# EAGLE library part J-24- (library con-headers-jp)
HEADER JACK PINS
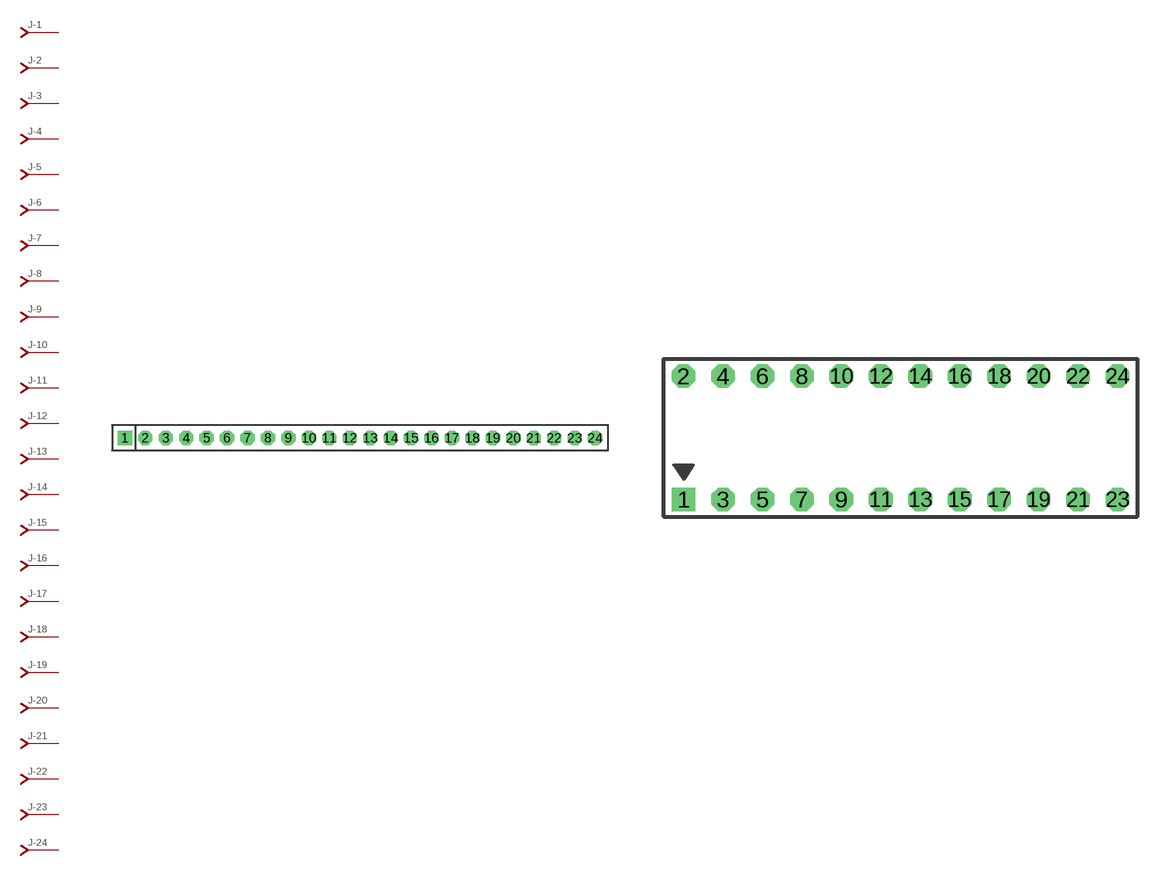
[diagram p9: symbol with the pads of SIP-100-24; footprints SIP-100-24, 535512-24]

Designator prefix J; gates -1=J-N -2=J-N -3=J-N -4=J-N -5=J-N -6=J-N -7=J-N -8=J-N -9=J-N -10=J-N -11=J-N -12=J-N -13=J-N -14=J-N -15=J-N -16=J-N -17=J-N -18=J-N -19=J-N -20=J-N -21=J-N -22=J-N -23=J-N -24=J-N

## J-24-SIP-100  [SIP-100-24]
1  -1:J  pas
2  -2:J  pas
3  -3:J  pas
4  -4:J  pas
5  -5:J  pas
6  -6:J  pas
7  -7:J  pas
8  -8:J  pas
9  -9:J  pas
10  -10:J  pas
11  -11:J  pas
12  -12:J  pas
13  -13:J  pas
14  -14:J  pas
15  -15:J  pas
16  -16:J  pas
17  -17:J  pas
18  -18:J  pas
19  -19:J  pas
20  -20:J  pas
21  -21:J  pas
22  -22:J  pas
23  -23:J  pas
24  -24:J  pas

## J-24-535512  [535512-24]
Pads as for SIP-100-24

## J-24-79107  [79107-24]
Pads as for SIP-100-24

## J-24-79109  [79109-24]
Pads as for SIP-100-24

## J-24-87264  [87264-24]
Pads as for SIP-100-24

## J-24-87368  [87368-24]
Pads as for SIP-100-24

## J-24-100-2X12  [HDR-100-2X12]
Pads as for SIP-100-24

## J-24-100-2X12_M  [HDR-100-2X12_M]
Pads as for SIP-100-24

## J-24-2MM-2X12  [HDR-2MM-2X12]
Pads as for SIP-100-24

## J-24-2MM-2X12_M  [HDR-2MM-2X12_M]
Pads as for SIP-100-24

## Footprint SIP-100-24 (pad centres in mm)
SIP Header - 0.1"
drill 0.914 pad 1.778 square: 1 -29.21,0
drill 0.914 pad 1.778 octagon: 2 -26.67,0; 3 -24.13,0; 4 -21.59,0; 5 -19.05,0; 6 -16.51,0; 7 -13.97,0; 8 -11.43,0; 9 -8.89,0; 10 -6.35,0; 11 -3.81,0; 12 -1.27,0; 13 1.27,0; 14 3.81,0; 15 6.35,0; 16 8.89,0; 17 11.43,0; 18 13.97,0; 19 16.51,0; 20 19.05,0; 21 21.59,0; 22 24.13,0; 23 26.67,0; 24 29.21,0

## Footprint 535512-24 (pad centres in mm)
AMPMODU - 535512 Series
drill 1.016 square: 1 -13.97,0
drill 1.016 octagon: 2 -13.97,7.938; 3 -11.43,0; 4 -11.43,7.938; 5 -8.89,0; 6 -8.89,7.938; 7 -6.35,0; 8 -6.35,7.938; 9 -3.81,0; 10 -3.81,7.938; 11 -1.27,0; 12 -1.27,7.938; 13 1.27,0; 14 1.27,7.938; 15 3.81,0; 16 3.81,7.938; 17 6.35,0; 18 6.35,7.938; 19 8.89,0; 20 8.89,7.938; 21 11.43,0; 22 11.43,7.938; 23 13.97,0; 24 13.97,7.938

## Footprint 79107-24 (pad centres in mm)
Molex Board-To-Board Receptacal 2.00mm (.079") Pitch Milli-Grid Header, Vertical, Through-Hole Mates with: 87759, 87762, 87758, 87760
drill 0.914 square: 1 -11,-1
drill 0.914 round: 2 -11,1; 3 -9,-1; 4 -9,1; 5 -7,-1; 6 -7,1; 7 -5,-1; 8 -5,1; 9 -3,-1; 10 -3,1; 11 -1,-1; 12 -1,1; 13 1,-1; 14 1,1; 15 3,-1; 16 3,1; 17 5,-1; 18 5,1; 19 7,-1; 20 7,1; 21 9,-1; 22 9,1; 23 11,-1; 24 11,1

## Footprint 79109-24 (pad centres in mm)
Molex Board-to-Board Receptacal 2.00mm (.079") Pitch Milli-Grid Header, Vertical, Top/Bottom Entry Mates with: 87758, 87759, 87760, 87831, 87832, 87833
smd 1.12 x 1.83: 1 -11,-2.65; 2 -11,2.65; 3 -9,-2.65; 4 -9,2.65; 5 -7,-2.65; 6 -7,2.65; 7 -5,-2.65; 8 -5,2.65; 9 -3,-2.65; 10 -3,2.65; 11 -1,-2.65; 12 -1,2.65; 13 1,-2.65; 14 1,2.65; 15 3,-2.65; 16 3,2.65; 17 5,-2.65; 18 5,2.65; 19 7,-2.65; 20 7,2.65; 21 9,-2.65; 22 9,2.65; 23 11,-2.65; 24 11,2.65
hole 0.914 at -10,0
hole 0.914 at -11,1
hole 0.914 at -11,-1
hole 0.914 at -9,-1
hole 0.914 at -9,1
hole 0.914 at -7,-1
hole 0.914 at -7,1
hole 0.914 at 10,0
hole 0.914 at -5,1
hole 0.914 at -5,-1
hole 0.914 at -3,1
hole 0.914 at -3,-1
hole 0.914 at -1,1
hole 0.914 at -1,-1
hole 0.914 at 1,1
hole 0.914 at 1,-1
hole 0.914 at 3,-1
hole 0.914 at 3,1
hole 0.914 at 5,1
hole 0.914 at 5,-1
hole 0.914 at 7,1
hole 0.914 at 7,-1
hole 0.914 at 9,1
hole 0.914 at 9,-1
hole 0.914 at 11,-1
hole 0.914 at 11,1

## Footprint 87264-24 (pad centres in mm)
Molex Board-To-Board Receptacal 2.00mm (.079") Pitch Milli-Grid Header, Side Entry Mates with 2mm(.079") Mill-Grid Header
drill 0.914 square: 1 -11,-2.25
drill 0.914 round: 2 -11,2.25; 3 -9,-2.25; 4 -9,2.25; 5 -7,-2.25; 6 -7,2.25; 7 -5,-2.25; 8 -5,2.25; 9 -3,-2.25; 10 -3,2.25; 11 -1,-2.25; 12 -1,2.25; 13 1,-2.25; 14 1,2.25; 15 3,-2.25; 16 3,2.25; 17 5,-2.25; 18 5,2.25; 19 7,-2.25; 20 7,2.25; 21 9,-2.25; 22 9,2.25; 23 11,-2.25; 24 11,2.25

## Footprint 87368-24 (pad centres in mm)
Molex Board-To-Board Receptacal 2.00mm (.079") Pitch Milli-Grid Header, Side Entry SMD Mates with 2mm(.079") Mill-Grid Header
smd 1 x 2.8: 1 -11,-3.1; 2 -11,3.1; 3 -9,-3.1; 4 -9,3.1; 5 -7,-3.1; 6 -7,3.1; 7 -5,-3.1; 8 -5,3.1; 9 -3,-3.1; 10 -3,3.1; 11 -1,-3.1; 12 -1,3.1; 13 1,-3.1; 14 1,3.1; 15 3,-3.1; 16 3,3.1; 17 5,-3.1; 18 5,3.1; 19 7,-3.1; 20 7,3.1; 21 9,-3.1; 22 9,3.1; 23 11,-3.1; 24 11,3.1
hole 0.914 at -11,0
hole 0.914 at 0,0

## Footprint HDR-100-2X12 (pad centres in mm)
PIN HEADER - 0.1"
drill 1.016 square: 1 -13.97,-1.27
drill 1.016 octagon: 2 -13.97,1.27; 3 -11.43,-1.27; 4 -11.43,1.27; 5 -8.89,-1.27; 6 -8.89,1.27; 7 -6.35,-1.27; 8 -6.35,1.27; 9 -3.81,-1.27; 10 -3.81,1.27; 11 -1.27,-1.27; 12 -1.27,1.27; 13 1.27,-1.27; 14 1.27,1.27; 15 3.81,-1.27; 16 3.81,1.27; 17 6.35,-1.27; 18 6.35,1.27; 19 8.89,-1.27; 20 8.89,1.27; 21 11.43,-1.27; 22 11.43,1.27; 23 13.97,-1.27; 24 13.97,1.27

## Footprint HDR-100-2X12_M (pad centres in mm)
PIN HEADER - 0.1" - MIRRORED
drill 1.016 square: 1 -13.97,1.27
drill 1.016 octagon: 2 -13.97,-1.27; 3 -11.43,1.27; 4 -11.43,-1.27; 5 -8.89,1.27; 6 -8.89,-1.27; 7 -6.35,1.27; 8 -6.35,-1.27; 9 -3.81,1.27; 10 -3.81,-1.27; 11 -1.27,1.27; 12 -1.27,-1.27; 13 1.27,1.27; 14 1.27,-1.27; 15 3.81,1.27; 16 3.81,-1.27; 17 6.35,1.27; 18 6.35,-1.27; 19 8.89,1.27; 20 8.89,-1.27; 21 11.43,1.27; 22 11.43,-1.27; 23 13.97,1.27; 24 13.97,-1.27

## Footprint HDR-2MM-2X12 (pad centres in mm)
PIN HEADER - 2MM"
drill 0.914 square: 1 -11,-1
drill 0.914 round: 2 -11,1; 3 -9,-1; 4 -9,1; 5 -7,-1; 6 -7,1; 7 -5,-1; 8 -5,1; 9 -3,-1; 10 -3,1; 11 -1,-1; 12 -1,1; 13 1,-1; 14 1,1; 15 3,-1; 16 3,1; 17 5,-1; 18 5,1; 19 7,-1; 20 7,1; 21 9,-1; 22 9,1; 23 11,-1; 24 11,1

## Footprint HDR-2MM-2X12_M (pad centres in mm)
PIN HEADER - 2MM - MIRRORED
drill 0.914 square: 1 -11,1
drill 0.914 round: 2 -11,-1; 3 -9,1; 4 -9,-1; 5 -7,1; 6 -7,-1; 7 -5,1; 8 -5,-1; 9 -3,1; 10 -3,-1; 11 -1,1; 12 -1,-1; 13 1,1; 14 1,-1; 15 3,1; 16 3,-1; 17 5,1; 18 5,-1; 19 7,1; 20 7,-1; 21 9,1; 22 9,-1; 23 11,1; 24 11,-1